# EAGLE library part ARJC02-111008B (library dooba)
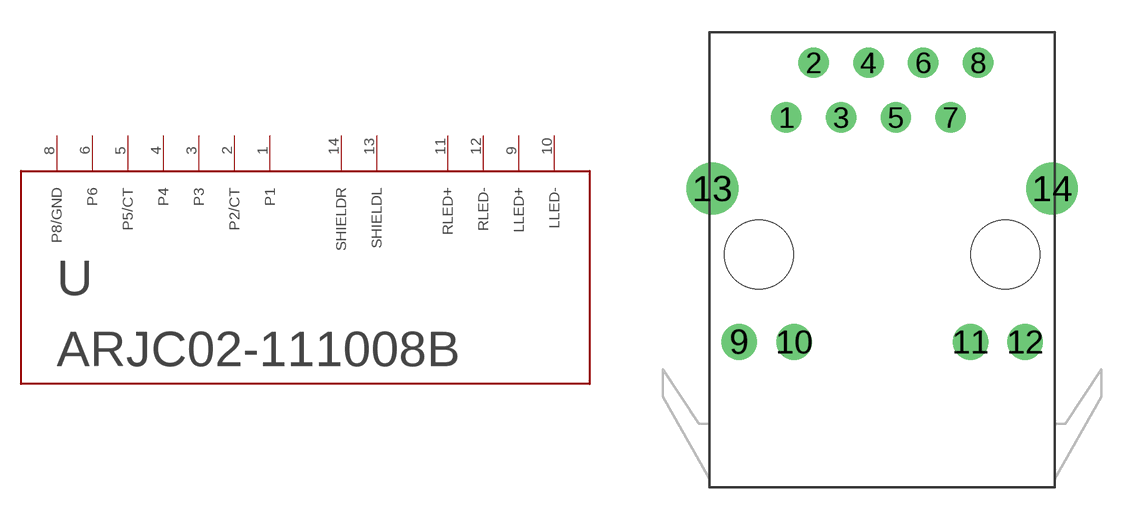
[diagram p6: symbol with the pads of ARJC02-111008B; footprint ARJC02-111008B]

Designator prefix U

## ARJC02-111008B  [ARJC02-111008B]
1  P1
2  P2/CT
3  P3
4  P4
5  P5/CT
6  P6
8  P8/GND
9  LLED+
10  LLED-
11  RLED+
12  RLED-
13  SHIELDL
14  SHIELDR

## Footprint ARJC02-111008B (pad centres in mm)
drill 0.9: 1 -4.445,6.6; 2 -3.175,9.14; 3 -1.905,6.6; 4 -0.635,9.14; 5 0.635,6.6; 6 1.905,9.14; 7 3.175,6.6; 8 4.445,9.14
drill 1.1: 9 -6.63,-3.81; 10 -4.09,-3.81; 11 4.09,-3.81; 12 6.63,-3.81
drill 1.6: 13 -7.875,3.3; 14 7.875,3.3
hole 3.2 at -5.715,0.25
hole 3.2 at 5.715,0.25